# Altium schematic symbol library KP_Schemes_Lib_20L.SchLib: 2 symbols
Pins are listed as number, name and electrical type; pins without a type are passive.

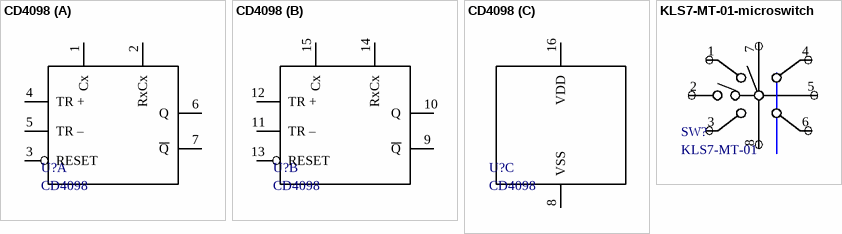
[diagram p0: symbols CD4098 to KLS7-MT-01-microswitch]

## CD4098
designator U?
Max. Supply Voltage Range: -0.5V to +20V; Operating-Temperature Range: -55*C to +125*C; DC Input Current (all inputs): +/-10mA; ComponentLink1Description: Datasheet; ComponentLink1URL: https://www.ti.com/lit/ds/symlink/cd4098b-mil.pdf?ts=1588187956403; Max. Input Voltage Range (all inputs): -0.5V to +20V; Storage Temperature Range: -65*C to + 150*C; Supplier: Digi-Key; Supplier Part Number: 296-3526-ND
footprint SOIC16 (Footprint not found)
footprint TSSOP16 (Footprint not found)
footprint PDIP16 (Footprint not found)
part A pins: 1 Cx, 2 RxCx, 3 RESET, 4 TR +, 5 TR –, 6 Q, 7 ~{Q}
part B pins: 9 ~{Q}, 10 Q, 11 TR –, 12 TR +, 13 RESET, 14 RxCx, 15 Cx
part C pins: 8 VSS (power), 16 VDD (power)

## KLS7-MT-01-microswitch
designator SW?, comment KLS7-MT-01
4-directional microswitch with center push; Rating: 100mA / 12V DC; Contact Resistance: 500M max.; Withstand Voltage: 250V DC (50Hz); Mechanical Life: 100000 times; Operating Force: 4 direction 160+/-50gf; center push 280+/-100gf; Movement: 4 direction 0.20+/-0.1mm; center push 0.15+/-0.1gf; ComponentLink1Description: Datasheet; ComponentLink1URL: https://www.rcscomponents.kiev.ua/datasheets/daatasheet-prztmt-01.pdf; Ambient Temperature Tange: -10*C to +60*C
footprint KLS-JOY-SW
pins: 1, 2, 3, 4, 5 (power), 6, 7 (power), 8 (power)